# Altium footprint library 1286AS-H-2R2M.PcbLib: 3 footprints
Each footprint in its own frame and in the unit in brackets; x right, y up, seen from the top. Pads: shape width x height; smd on the part's side, far side on the other; paste and mask are expansions set on the pad; w line width, h text height; cw(c..) or ccw(c..) is an arc to the next point about the centre after c.
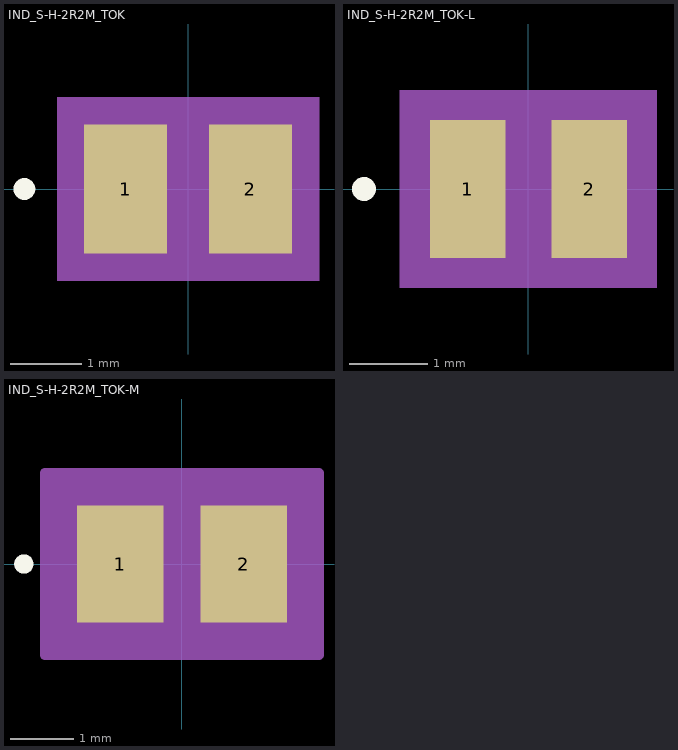
[diagram p0: the footprints below, top view; thin cyan lines are the x and y axes]

## IND_S-H-2R2M_TOK [mil]
pads (2):
  rect 45.78x71 smd paste+0 mask+0: 1(-34.39,0) 2(34.39,0)
Top Overlay:
  circle w6: c-90.28,0 r3
Mechanical 5:
  region: 72.28,-50.5 -72.28,-50.5 -72.28,50.5 72.28,50.5
Mechanical 13:
  circle w0: c-29.39,0 r3
  lines w1: -43.5,-35.5 -43.5,35.5 ; -43.5,-35.5 -11.5,-35.5 -11.5,35.5 -43.5,35.5 ; -43.5,-35.5 43.5,-35.5 ; -43.5,-35.5 -43.5,35.5 ; -43.5,35.5 43.5,35.5 ; 43.5,-35.5 11.5,-35.5 11.5,35.5 43.5,35.5 ; 43.5,-35.5 43.5,35.5 ; 43.5,-35.5 43.5,35.5
Mechanical 15:
  region: 67.28,-45.5 -67.28,-45.5 -67.28,45.5 67.28,45.5
  lines w6: -67.28,-45.5 -67.28,45.5 67.28,45.5 67.28,-45.5 -67.28,-45.5
3D body "IND_S-H-2R2M_TOK.step": height 47.01, standoff 0, extent -43.5,-35.51 43.5,35.51

## IND_S-H-2R2M_TOK-L [mil]
pads (2):
  rect 37.91x69.03 smd paste+0 mask+0: 1(-30.45,0) 2(30.45,0)
Top Overlay:
  circle w6: c-82.41,0 r3
Mechanical 5:
  region: 64.41,-49.52 -64.41,-49.52 -64.41,49.52 64.41,49.52
Mechanical 13:
  circle w0: c-25.45,0 r3
  lines w1: -43.5,-35.5 -43.5,35.5 ; -43.5,-35.5 -11.5,-35.5 -11.5,35.5 -43.5,35.5 ; -43.5,-35.5 43.5,-35.5 ; -43.5,-35.5 -43.5,35.5 ; -43.5,35.5 43.5,35.5 ; 43.5,-35.5 11.5,-35.5 11.5,35.5 43.5,35.5 ; 43.5,-35.5 43.5,35.5 ; 43.5,-35.5 43.5,35.5
Mechanical 15:
  region: 53.41,-38.52 -53.41,-38.52 -53.41,38.52 53.41,38.52
  lines w6: -53.41,-38.52 -53.41,38.52 53.41,38.52 53.41,-38.52 -53.41,-38.52
3D body "IND_S-H-2R2M_TOK.step": height 47.01, standoff 0, extent -43.5,-35.51 43.5,35.51

## IND_S-H-2R2M_TOK-M [mil]
pads (2):
  rect 53.65x72.97 smd paste+0 mask+0: 1(-38.33,0) 2(38.33,0)
Top Overlay:
  circle w6: c-98.15,0 r3
Mechanical 5:
  region: 80.15,-51.48 -80.15,-51.48 -80.15,51.48 80.15,51.48
Mechanical 13:
  circle w0: c-33.33,0 r3
  lines w1: -43.5,-35.5 -43.5,35.5 ; -43.5,-35.5 -11.5,-35.5 -11.5,35.5 -43.5,35.5 ; -43.5,-35.5 43.5,-35.5 ; -43.5,-35.5 -43.5,35.5 ; -43.5,35.5 43.5,35.5 ; 43.5,-35.5 11.5,-35.5 11.5,35.5 43.5,35.5 ; 43.5,-35.5 43.5,35.5 ; 43.5,-35.5 43.5,35.5
Mechanical 15:
  region: 85.15,-56.48 -85.15,-56.48 -85.15,56.48 85.15,56.48
  lines w6: -85.15,-56.48 -85.15,56.48 85.15,56.48 85.15,-56.48 -85.15,-56.48
3D body "IND_S-H-2R2M_TOK.step": height 47.01, standoff 0, extent -43.5,-35.51 43.5,35.51